# EAGLE library part 150310207 (library Bits_library_eagle)
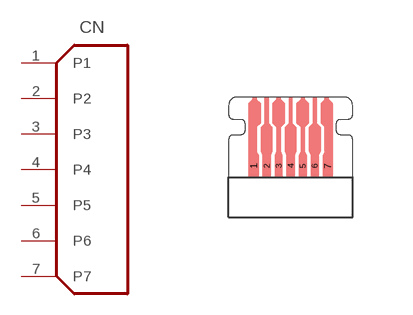
[diagram p28: symbol with the pads of 150310207; footprint 150310207]

Designator prefix CN

## 150310207  [150310207]
1  P1
2  P2
3  P3
4  P4
5  P5
6  P6
7  P7

## Footprint 150310207 (pad centres in mm)
smd 0.25 x 0.55: 1 -0.925,-1.725; 7 0.925,-1.725
smd 0.2 x 0.55: 2 -0.6,-1.725; 3 -0.3,-1.725; 4 0,-1.725; 5 0.3,-1.725; 6 0.6,-1.725